# EAGLE library part SN74LVC1G3157 (library EnviroTron)
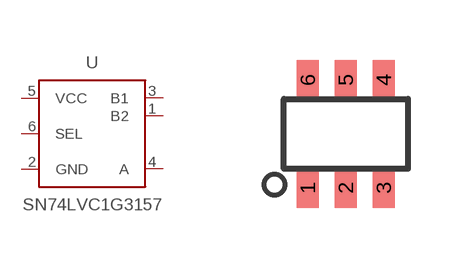
[diagram p2: symbol with the pads of SOT23-6; footprint SOT23-6]

Designator prefix -

## SN74LVC1G3157 (MPN: SN74LVC1G3157DBVR; PN-DK: 296-14908-6-ND)  [SOT23-6]
1  B2
2  GND  pwr
3  B1
4  A
5  VCC  pwr
6  SEL  in

## Footprint SOT23-6 (pad centres in mm)
smd 0.55 x 1: 1 -0.95,-1.35; 2 0,-1.35; 3 0.95,-1.35; 4 0.95,1.35; 5 0,1.35; 6 -0.95,1.35